# EAGLE library part SIMM1000 (library simmstik)
1" SimmStik(TM)
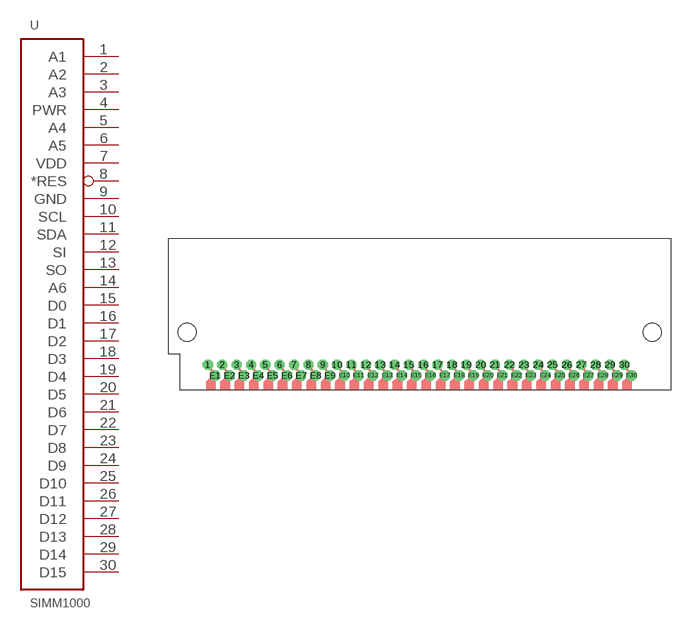
[diagram p1: symbol with the pads of SS1000; footprint SS1000]

Designator prefix -

## SIMM1000  [SS1000]
1  A1  pas
2  A2  pas
3  A3  pas
4  PWR  pas
5  A4  pas
6  A5  pas
7  VDD  pas
8  *RES  pas
9  GND  pas
10  SCL  pas
11  SDA  pas
12  SI  pas
13  SO  pas
14  A6  pas
15  D0  pas
16  D1  pas
17  D2  pas
18  D3  pas
19  D4  pas
20  D5  pas
21  D6  pas
22  D7  pas
23  D8  pas
24  D9  pas
25  D10  pas
26  D11  pas
27  D12  pas
28  D13  pas
29  D14  pas
30  D15  pas

## Footprint SS1000 (pad centres in mm)
1" SimmStik PCB
drill 0.813 pad 1.778 octagon: 1 6.985,4.445; 2 9.525,4.445; 3 12.065,4.445; 4 14.605,4.445; 5 17.145,4.445; 6 19.685,4.445; 7 22.225,4.445; 8 24.765,4.445; 9 27.305,4.445; 10 29.845,4.445; 11 32.385,4.445; 12 34.925,4.445; 13 37.465,4.445; 14 40.005,4.445; 15 42.545,4.445; 16 45.085,4.445; 17 47.625,4.445; 18 50.165,4.445; 19 52.705,4.445; 20 55.245,4.445; 21 57.785,4.445; 22 60.325,4.445; 23 62.865,4.445; 24 65.405,4.445; 25 67.945,4.445; 26 70.485,4.445; 27 73.025,4.445; 28 75.565,4.445; 29 78.105,4.445; 30 80.645,4.445; E1 8.255,2.54; E2 10.795,2.54; E3 13.335,2.54; E4 15.875,2.54; E5 18.415,2.54; E6 20.955,2.54; E7 23.495,2.54; E8 26.035,2.54; E9 28.575,2.54; E10 31.115,2.54; E11 33.655,2.54; E12 36.195,2.54; E13 38.735,2.54; E14 41.275,2.54; E15 43.815,2.54; E16 46.355,2.54; E17 48.895,2.54; E18 51.435,2.54; E19 53.975,2.54; E20 56.515,2.54; E21 59.055,2.54; E22 61.595,2.54; E23 64.135,2.54; E24 66.675,2.54; E25 69.215,2.54; E26 71.755,2.54; E27 74.295,2.54; E28 76.835,2.54; E29 79.375,2.54; E30 81.915,2.54
hole 3.175 at 3.302,10.16
hole 3.175 at 85.598,10.16